# Altium schematic symbol library Other.SchLib: 179 symbols (part 11 of 11)
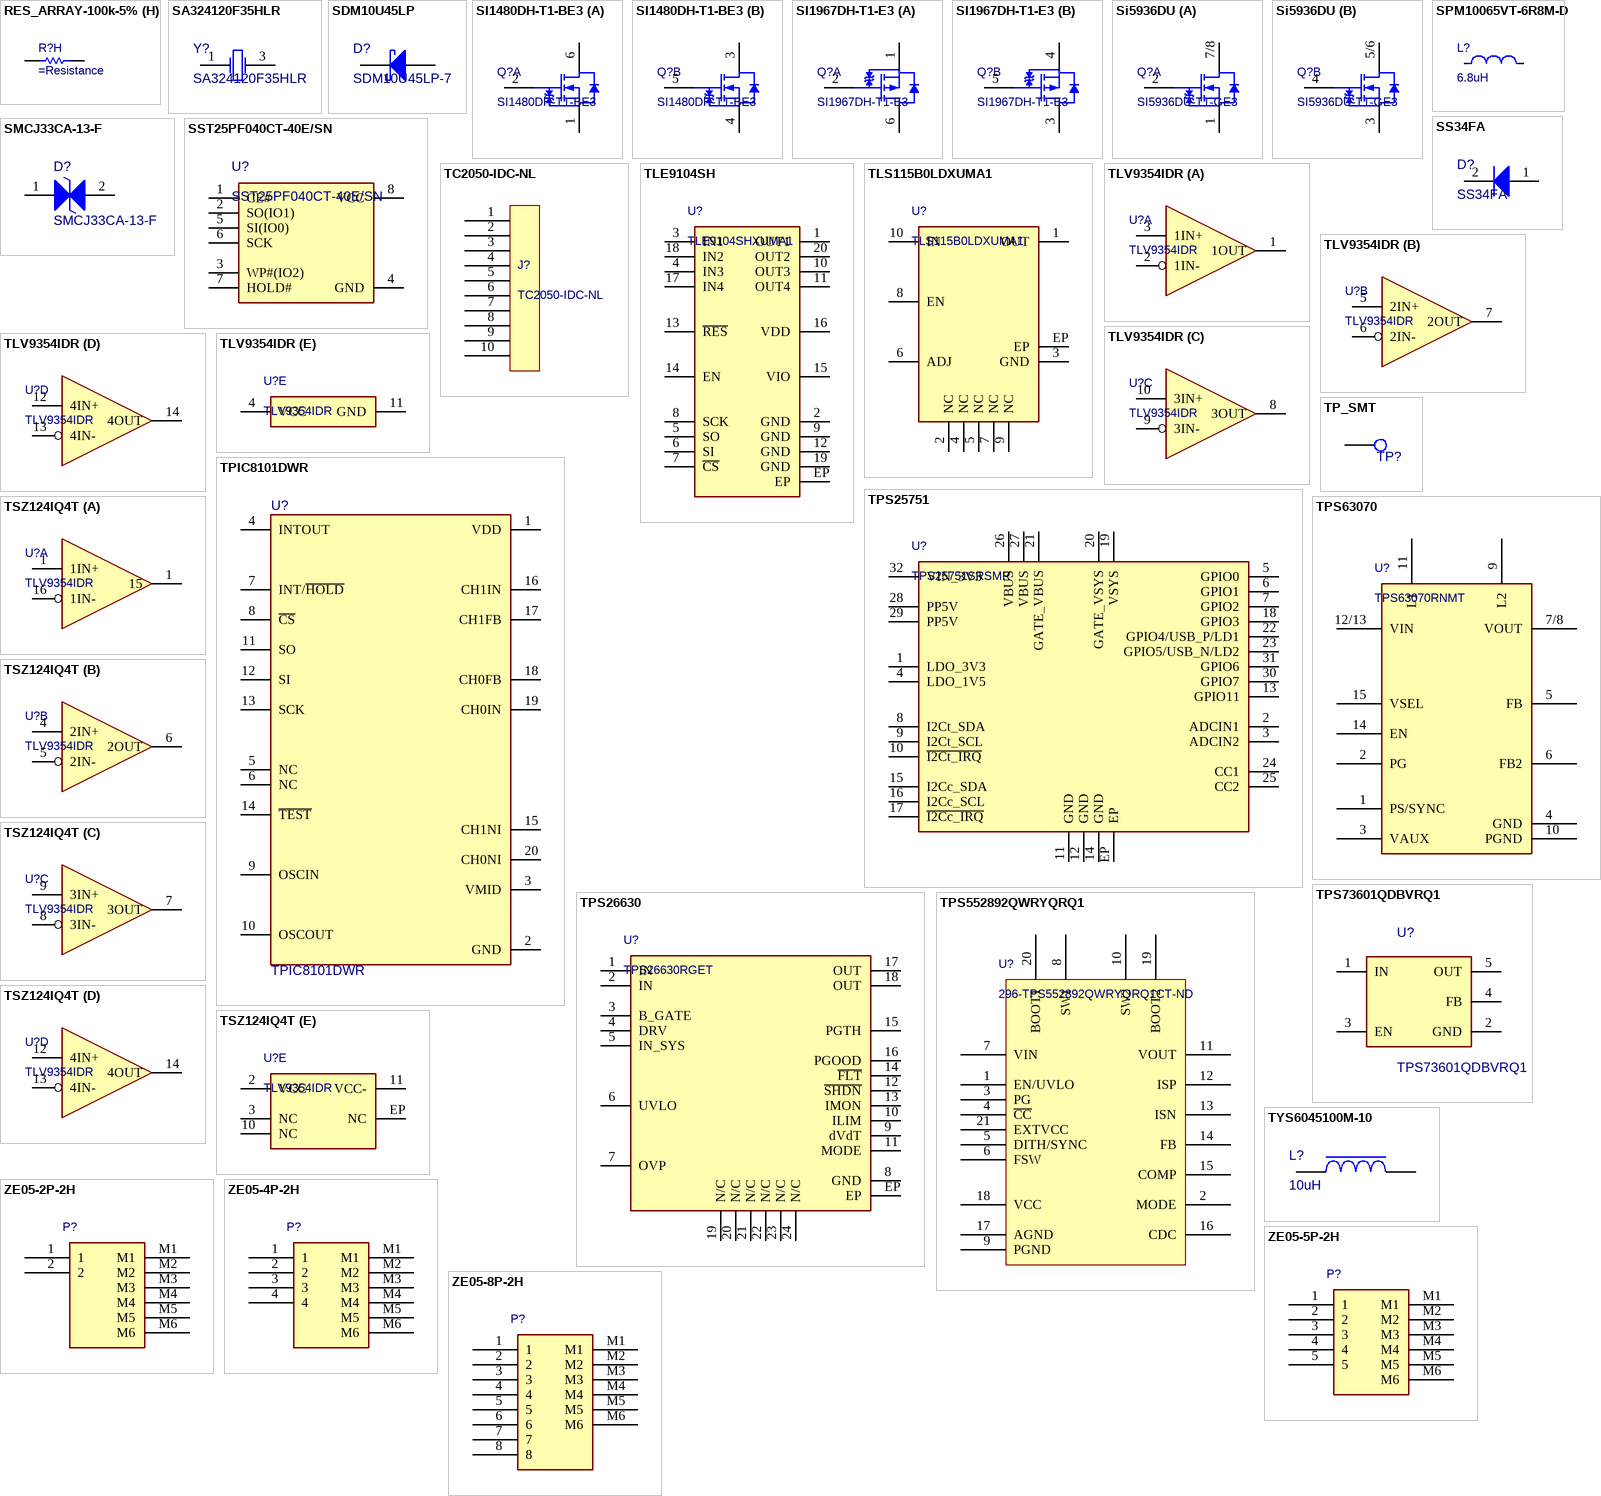
[diagram p18: symbols RES_ARRAY-100k-5% to ZE05-8P-2H]

## TSZ124IQ4T
designator U?, comment TLV9354IDR
TSZ124 Series 5.5V 400 kHz Rail to Rail SMT Operational Amplifier - TSSOP-14; Manufacturer: STMicroelectronics; Manufacturer Part Number: TSZ124IQ4T; Bandwidth: 400kHz; Common Mode Rejection Ratio: 115dB; Input Bias Current: 200pA; Input Offset Voltage (Vos): 8µV; Max Supply Current: 40µA; Max Supply Voltage: 6V; Min Supply Voltage: 1.8V; Nominal Supply Current: 31µA; Number of Channels: 4; Operating Supply Voltage: 3.3V; Output Current: 17mA; Output Current per Channel: 18mA; Slew Rate: 0.19V/µs; Voltage Gain: 135dB; Supplier 1: DigiKey; Supplier Part Number 1: 497-14337-1-ND; Supplier: DigiKey; Supplier Part Number: 497-14337-1-ND; RoHS: Compliant; Category: Amplifiers - Op Amps, Buffer, Instrumentation; Stock: 10565; Pricing: 1=1,86, 10=1,367, 25=1,2444, 100=1,1092, 250=1,0448, 500=1,00596, 1000=0,97398 (USD); Case/Package: QFN; China RoHS: Compliant; Gain Bandwidth Product: 400kHz; Height - Seated (Max): 1mm; Length: 3mm; Lifecycle Status: Production; Max Operating Temperature: 125°C; Min Operating Temperature: -40°C; Mounting Technology: Surface Mount; Number of Circuits: 4; Pins: 16; Number of Terminals: 4; Operating Supply Current: 31µA; Packaging: Tape and Reel; REACH SVHC: Yes; Schedule B: 8542330000, 8542330000|8542330000|8542330000|8542330000|8542330000; Terminal Pitch: 500µm; Unity Gain Bandwidth Product: 400kHz; Width: 3mm; ComponentLink1URL: https://datasheet.octopart.com:443/TSZ124IQ4T-STMicroelectronics-datasheet-62337710.pdf?src-supplier=Future+Electronics; ComponentLink1Description: https://datasheet.octopart.com:443/TSZ124IQ4T-STMicroelectronics-datasheet-62337710.pdf?src-supplier=Future+Electronics; ComponentLink2URL: https://datasheet.octopart.com:443/TSZ124IQ4T-STMicroelectronics-datasheet-16350222.pdf?src-supplier=STMicroelectronics; ComponentLink2Description: https://datasheet.octopart.com:443/TSZ124IQ4T-STMicroelectronics-datasheet-16350222.pdf?src-supplier=STMicroelectronics; ComponentLink3URL: https://datasheet.octopart.com:443/TSZ124IQ4T-STMicroelectronics-datasheet-140259870.pdf?src-supplier=Farnell; ComponentLink3Description: https://datasheet.octopart.com:443/TSZ124IQ4T-STMicroelectronics-datasheet-140259870.pdf?src-supplier=Farnell; ComponentLink4URL: https://datasheet.octopart.com:443/TSZ124IQ4T-STMicroelectronics-datasheet-159009515.pdf?src-supplier=SHENGYU+ELECTRONICS; ComponentLink4Description: https://datasheet.octopart.com:443/TSZ124IQ4T-STMicroelectronics-datasheet-159009515.pdf?src-supplier=SHENGYU+ELECTRONICS; ComponentLink5URL: https://datasheet.octopart.com:443/TSZ124IQ4T-STMicroelectronics-datasheet-165583692.pdf?src-supplier=TME; ComponentLink5Description: https://datasheet.octopart.com:443/TSZ124IQ4T-STMicroelectronics-datasheet-165583692.pdf?src-supplier=TME
footprint VQFN16 (VQFN, 16-Leads, Body 3.5x3.5mm)
part A pins: 1 15, 1 1IN+, 16 1IN-
part B pins: 4 2IN+, 5 2IN-, 6 2OUT
part C pins: 7 3OUT, 8 3IN-, 9 3IN+
part D pins: 12 4IN+, 13 4IN-, 14 4OUT
part E pins: 2 VCC (power), 3 NC (power), 10 NC (power), 11 VCC- (power), EP NC (power)

## TYS6045100M-10
designator L?, comment 10uH
FIXED IND 10UH 2.45A 48 MOHM SMD; Manufacturer: Laird Steward; Manufacturer Part Number: TYS6045100M-10; ComponentLink1URL: http://www.mouser.com/ds/2/223/SIP-DS-TYS%206045%200413-558564.pdf?src-supplier=Mouser; ComponentLink1Description: http://www.mouser.com/ds/2/223/SIP-DS-TYS%206045%200413-558564.pdf?src-supplier=Mouser; ComponentLink2URL: http://assets.lairdtech.com/home/brandworld/files/TYS6045220M-10.pdf?src-supplier=Digi-Key; ComponentLink2Description: http://assets.lairdtech.com/home/brandworld/files/TYS6045220M-10.pdf?src-supplier=Digi-Key; Supplier: Digikey; Supplier Part Number: 240-2737-1-ND; RoHS: Yes; Category: Fixed Inductors; Stock: 6071; Pricing: 1=0,41, 10=0,337, 100=0,2774 (USD); RoHS Compliant: 5897YesNo; ComponentLink3URL: https://datasheet.ciiva.com/22622/1685889-22622963.pdf?src-supplier=Element14; ComponentLink3Description: https://datasheet.ciiva.com/22622/1685889-22622963.pdf?src-supplier=Element14; Supplier 1: Digikey; Supplier Part Number 1: 240-2737-1-ND; Inductance: 10uH
footprint TYS6045 (Footprint not found)
pins: 1, 2

## ZE05-2P-2H
designator P?
pins: 1, 2, M1, M2, M3, M4, M5, M6

## ZE05-4P-2H
designator P?
pins: 1, 2, 3, 4, M1, M2, M3, M4, M5, M6

## ZE05-5P-2H
designator P?
pins: 1, 2, 3, 4, 5, M1, M2, M3, M4, M5, M6

## ZE05-8P-2H
designator P?
pins: 1, 2, 3, 4, 5, 6, 7, 8, M1, M2, M3, M4, M5, M6